# EAGLE library part MOTOR_HEADER (library BB8)
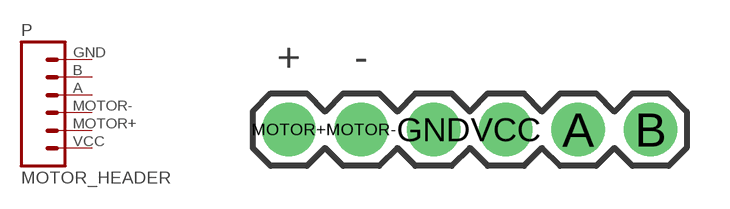
[diagram p1: symbol with the pads of 1X06; footprint 1X06]

Designator prefix P

## MOTOR_HEADER  [1X06]
A  A  pas
B  B  pas
GND  GND  pas
MOTOR+  MOTOR+  pas
MOTOR-  MOTOR-  pas
VCC  VCC  pas

## Footprint 1X06 (pad centres in mm)
drill 1.016 pad 1.88: A 3.81,0; B 6.35,0; GND -1.27,0; MOTOR+ -6.35,0; MOTOR- -3.81,0; VCC 1.27,0